# Altium schematic symbol library ToradexMainBoard-V0I1.SCHLIB: 303 symbols (part 14 of 14)
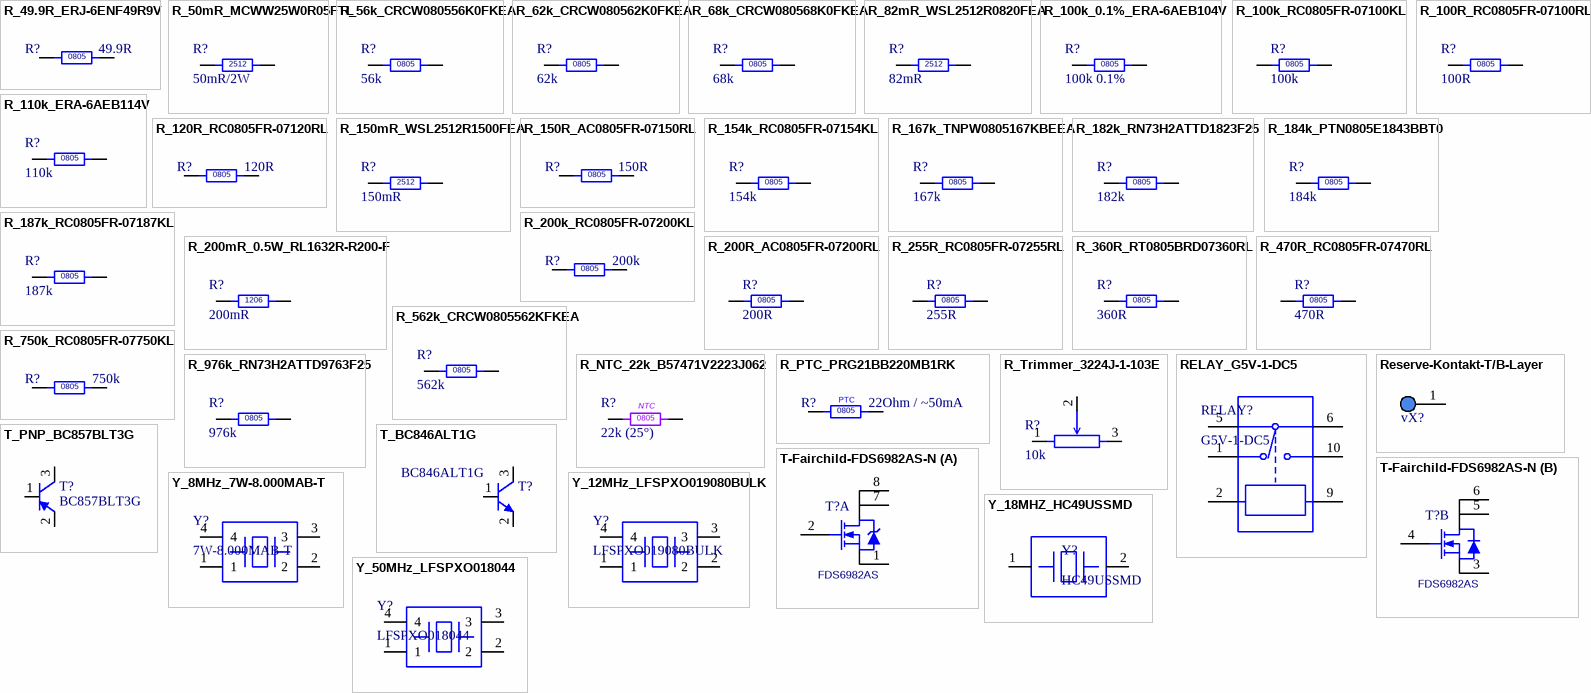
[diagram p28: symbols R_49.9R_ERJ-6ENF49R9V to Y_50MHz_LFSPXO018044]

## R_PTC_PRG21BB220MB1RK
designator R?, comment 22Ohm / ~50mA
Thermistor PTC 22 Ohm 20% 2-Pin 0805 Surface Mount Solder Pad T/R; Manufacturer: Murata; Manufacturer Part Number: PRG21BB220MB1RK; Resistance: 22R; Current Rating: 110mA; Voltage: 20V; Max Current Rating: 1.1A; Hold Current: 30mA; Supplier 1: Farnell; RoHS: Yes; Category: PTC Resettable Fuses; Stock 1: 3000; Pricing 1: 5=0,31200, 50=0,25900, 250=0,23300, 500=0,21400, 1500=0,20000, 3000=0,19000, 15000=0,18300 (EUR); Mount: Surface Mount; Case/Package: 0805; Number of Pins: 2; Case Code (Metric): 2012; Case Code (Imperial): 0805; Min Operating Temperature: -10°C; Max Operating Temperature: 60°C; Tolerance: 20%; Packaging: Tape and Reel; Package Quantity: 3000; Termination: SMD/SMT; Trip Current: 110mA; Length: 2mm; Height: 1.25mm; Width: 800um; Depth: 1.25mm; Radiation Hardening: No; Lead Free: Lead Free; ComponentLink1URL: https://datasheet.ciiva.com/30488/0900766b81259d6c-30488304.pdf?src-supplier=RSComponents; ComponentLink1Description: https://datasheet.ciiva.com/30488/0900766b81259d6c-30488304.pdf?src-supplier=RSComponents; ComponentLink2URL: https://datasheet.ciiva.com/16477/prf18bc471qb1rb-16477217.pdf?src-supplier=Future+Electronics; ComponentLink2Description: https://datasheet.ciiva.com/16477/prf18bc471qb1rb-16477217.pdf?src-supplier=Future+Electronics; ComponentLink3URL: https://datasheet.ciiva.com/325/pthat15-325994.pdf?src-supplier=Digi-Key; ComponentLink3Description: https://datasheet.ciiva.com/325/pthat15-325994.pdf?src-supplier=Digi-Key; ComponentLink4URL: https://datasheet.ciiva.com/3280/r90e-3280581.pdf?src-supplier=Avnet; ComponentLink4Description: https://datasheet.ciiva.com/3280/r90e-3280581.pdf?src-supplier=Avnet; ComponentLink5URL: https://datasheet.ciiva.com/325/pthat15-325995.pdf?src-supplier=Digi-Key; ComponentLink5Description: https://datasheet.ciiva.com/325/pthat15-325995.pdf?src-supplier=Digi-Key; ComponentLink6URL: https://datasheet.ciiva.com/325/pthat15-325996.pdf?src-supplier=Digi-Key; ComponentLink6Description: https://datasheet.ciiva.com/325/pthat15-325996.pdf?src-supplier=Digi-Key; ComponentLink7URL: https://datasheet.ciiva.com/16634/r90e-16634335.pdf?src-supplier=Avnet+Europe; ComponentLink7Description: https://datasheet.ciiva.com/16634/r90e-16634335.pdf?src-supplier=Avnet+Europe; Supplier Part Number 1: 3257114
footprint R-PTC-0805 (Chip Resistor, 2-Leads, Body 2,00x1,25mm, IPC Medium Density)
pins: 1, 2
text: PTC

## R_Trimmer_3224J-1-103E
designator R?, comment 10k
Resistor Trimmer 10k Ohm 10% 1/4 Watt 11 Turn 1.5mm J-hook Surface Mount Embossed Tape and Reel
footprint R_Trimmer-3224J-MFG
pins: 1, 2, 3

## RELAY_G5V-1-DC5
designator RELAY?, comment G5V-1-DC5
RELAY GEN PURPOSE SPDT 1A 125V; Manufacturer: Omron; Coil Current: 30mA; Operate Time: 5ms; Coil Resistance: 167R; Coil Voltage (DC): 5V; Coil Type: Non-Latching; Max Voltage Rating (DC): 60V; Coil Power: 150mW; Relay Type: General Purpose; Number of Poles: 1; Insulation Resistance: 1GR; Approvals: UL,CSA; Supplier 1: Mouser; Manufacturer Part Number: G5V-1-DC5; RoHS: Yes; Category: Signal Relays; Stock 1: 6857; Mount: Through Hole,PCB; Case/Package: DIP; Number of Pins: 6; Contact Material: Gold,Silver; Min Operating Temperature: -40°C; Max Operating Temperature: 70°C; Throw Configuration: SPDT; Termination: PC Pin; Contact Current Rating: 1A; Voltage Rating (AC): 125V; Max Voltage Rating (AC): 125V; Max Current Rating: 1A; Packaging: Bulk; Power Consumption: 150mW; Package Quantity: 25; Voltage Rating (DC): 60V; Release Time: 5ms; Current Rating: 1A; Type: Electromechanical; Length: 12.5mm; Width: 7.5mm; Height: 10mm; Depth: 7.5mm; Radiation Hardening: No; REACH SVHC: Unknown; Lead Free: Lead Free; ComponentLink1URL: https://datasheet.ciiva.com/1525/96550-1525281.pdf?src-supplier=Element14; ComponentLink1Description: https://datasheet.ciiva.com/1525/96550-1525281.pdf?src-supplier=Element14; ComponentLink2URL: https://datasheet.ciiva.com/19455/187240-19455238.pdf?src-supplier=Jameco; ComponentLink2Description: https://datasheet.ciiva.com/19455/187240-19455238.pdf?src-supplier=Jameco; ComponentLink3URL: https://datasheet.ciiva.com/26921/getdatasheetpartid-765626-26921061.pdf?src-supplier=Verical; ComponentLink3Description: https://datasheet.ciiva.com/26921/getdatasheetpartid-765626-26921061.pdf?src-supplier=Verical; ComponentLink4URL: https://datasheet.ciiva.com/18421/70175634-18421511.pdf?src-supplier=Allied+Electronics; ComponentLink4Description: https://datasheet.ciiva.com/18421/70175634-18421511.pdf?src-supplier=Allied+Electronics; ComponentLink5URL: https://datasheet.ciiva.com/15718/g5v-1-15718184.pdf?src-supplier=Onlinecomponents.com; ComponentLink5Description: https://datasheet.ciiva.com/15718/g5v-1-15718184.pdf?src-supplier=Onlinecomponents.com; ComponentLink6URL: https://datasheet.ciiva.com/2416/g5v-1-0911-2416495.pdf?src-supplier=Digi-Key; ComponentLink6Description: https://datasheet.ciiva.com/2416/g5v-1-0911-2416495.pdf?src-supplier=Digi-Key; ComponentLink7URL: https://datasheet.ciiva.com/30083/en-g5v-1-30083503.pdf?src-supplier=Onlinecomponents.com; ComponentLink7Description: https://datasheet.ciiva.com/30083/en-g5v-1-30083503.pdf?src-supplier=Onlinecomponents.com; Supplier Part Number 1: 653-G5V-1-DC5
footprint OMRON-RELAY-G5V-6_V (Relay, 6-Leads, Body 12.3x7.3mm, Pitch 2.54mm)
pins: 1, 2, 5, 6, 9, 10

## Reserve-Kontakt-T/B-Layer
designator vX?, comment Reserve Contact Via 0.5mm  (value not drawn)  (no BOM)
Via Reserve Kontakt
footprint ReseveContact (Via 0.3mm)
pins: 1

## T-Fairchild-FDS6982AS-N
designator T?, comment FDS6982AS
FAIRCHILD SEMICONDUCTOR   FDS6982AS   MOSFET, NN-CH, 30V, 8.6A, 8-SOIC, RL; Manufacturer: ON Semiconductor / Fairchild; PCBChecked: initials after Checked; Rise Time: 7ns; Fall Time: 3ns; Drain to Source Resistance: 11mR; Power Dissipation: 2W; Turn-Off Delay Time: 24ns; Gate to Source Voltage (Vgs): 20V; Input Capacitance: 610pF; Number of Elements: 2; Rds On Max: 28mR; Turn-On Delay Time: 12ns; Threshold Voltage: 1.9V; Nominal Vgs: 1.4V; FET Type: 2 N-Channel; Recovery Time: 19ns; Manufacturer Name: Fairchild; IPC7352C: initials after Checked; SCHChecked: initials after Checked; Supplier 1: Farnell; Manufacturer Part Number: FDS6982AS; RoHS: Yes; Category: MOSFETs; Stock 1: 6507; Pricing 1: 5=0,75600, 50=0,67400, 100=0,43500, 500=0,39200, 1000=0,34800 (EUR); Mount: Surface Mount; Case/Package: SOIC; Number of Pins: 8; Weight: 0.187g; Contact Plating: Tin,Matte; Min Operating Temperature: -55°C; Max Operating Temperature: 150°C; Package Quantity: 1; Packaging: Tape and Reel; Continuous Drain Current (ID): 8.6A; Max Power Dissipation: 2W; Drain to Source Voltage (Vdss): 30V; Drain to Source Breakdown Voltage: 30V; On-State Resistance: 28MR; Voltage Rating (DC): 30V; Current Rating: 8.6A; Length: 5mm; Height: 1.5mm; Width: 3.99mm; Radiation Hardening: No; REACH SVHC: No SVHC; Lead Free: Lead Free; ComponentLink1URL: https://datasheet.ciiva.com/6386/fds6982as-6386529.pdf?src-supplier=Digi-Key; ComponentLink1Description: https://datasheet.ciiva.com/6386/fds6982as-6386529.pdf?src-supplier=Digi-Key; ComponentLink2URL: https://datasheet.ciiva.com/15137/getdatasheetpartid-60181-15137249.pdf?src-supplier=Verical; ComponentLink2Description: https://datasheet.ciiva.com/15137/getdatasheetpartid-60181-15137249.pdf?src-supplier=Verical; ComponentLink3URL: https://datasheet.ciiva.com/14170/fds6982as-eng-tds-14170930.pdf?src-supplier=Distrelec; ComponentLink3Description: https://datasheet.ciiva.com/14170/fds6982as-eng-tds-14170930.pdf?src-supplier=Distrelec; ComponentLink4URL: https://datasheet.ciiva.com/4441/fds6982as-111180-4441914.pdf?src-supplier=Mouser; ComponentLink4Description: https://datasheet.ciiva.com/4441/fds6982as-111180-4441914.pdf?src-supplier=Mouser; ComponentLink5URL: https://datasheet.ciiva.com/8114/fds6982as-8114629.pdf?src-supplier=Avnet; ComponentLink5Description: https://datasheet.ciiva.com/8114/fds6982as-8114629.pdf?src-supplier=Avnet; ComponentLink6URL: https://datasheet.ciiva.com/22705/192146-22705126.pdf?src-supplier=Element14; ComponentLink6Description: https://datasheet.ciiva.com/22705/192146-22705126.pdf?src-supplier=Element14; ComponentLink7URL: https://datasheet.ciiva.com/26141/fds6982as-26141769.pdf?src-supplier=Avnet+Europe; ComponentLink7Description: https://datasheet.ciiva.com/26141/fds6982as-26141769.pdf?src-supplier=Avnet+Europe; Supplier Part Number 1: 1495216; Manufacturer Part No.: FDS6982AS
footprint SOIC127P600X173-8N
part A pins: 1 S, 2 G, 7 D, 8 D
part B pins: 3 S, 4 G, 5 D, 6 D

## T_BC846ALT1G
designator T?, comment BC846ALT1G
ON SEMICONDUCTOR - BC846ALT1G - BIPOLAR TRANSISTOR, FULL REEL; Collector Emitter Voltage (VCEO): 65V; Polarity: NPN; Max Power Dissipation: 300mW; Max Collector Current: 100mA; Emitter Base Voltage (VEBO): 6V; Collector Base Voltage (VCBO): 80V; Transition Frequency: 100MHz; Element Configuration: Single; Number of Elements: 1; Collector Emitter Saturation Voltage: 600mV; hFE Min: 110; Supplier 1: Digi-Key; Manufacturer: ON Semiconductor; Manufacturer Part Number: BC846ALT1G; RoHS: Yes; Category: BJTs; Stock 1: 258757; Pricing 1: 1=0,12000, 10=0,10900, 25=0,10360, 100=0,04570, 250=0,04384, 500=0,03586, 1000=0,02490 (USD); Case/Package: SOT-23-3; Number of Pins: 3; Contact Plating: Tin,Matte; Min Operating Temperature: -55°C; Max Operating Temperature: 150°C; Packaging: Tape and Reel; Collector Emitter Breakdown Voltage: 65V; Package Quantity: 1; Gain Bandwidth Product: 100MHz; Power Dissipation: 300mW; Frequency: 100MHz; Max Breakdown Voltage: 65V; Max Frequency: 100MHz; Voltage Rating (DC): 65V; Current Rating: 100mA; Length: 2.9mm; Height: 0.94mm; Width: 1.3mm; Radiation Hardening: No; Lead Free: Lead Free; REACH SVHC: No SVHC; Halogen Free: Halogen Free; ComponentLink1URL: https://datasheet.ciiva.com/15138/getdatasheetpartid-38432-15138609.pdf?src-supplier=Verical; ComponentLink1Description: https://datasheet.ciiva.com/15138/getdatasheetpartid-38432-15138609.pdf?src-supplier=Verical; ComponentLink2URL: https://datasheet.ciiva.com/976/bc846alt1-d-976374.pdf?src-supplier=Digi-Key; ComponentLink2Description: https://datasheet.ciiva.com/976/bc846alt1-d-976374.pdf?src-supplier=Digi-Key; ComponentLink3URL: https://datasheet.ciiva.com/976/bc846alt1-d-976375.pdf?src-supplier=Digi-Key; ComponentLink3Description: https://datasheet.ciiva.com/976/bc846alt1-d-976375.pdf?src-supplier=Digi-Key; ComponentLink4URL: https://datasheet.ciiva.com/976/bc846alt1-d-976376.pdf?src-supplier=Digi-Key; ComponentLink4Description: https://datasheet.ciiva.com/976/bc846alt1-d-976376.pdf?src-supplier=Digi-Key; ComponentLink5URL: https://datasheet.ciiva.com/22664/1571861-22664104.pdf?src-supplier=Element14; ComponentLink5Description: https://datasheet.ciiva.com/22664/1571861-22664104.pdf?src-supplier=Element14; ComponentLink6URL: https://datasheet.ciiva.com/7972/bc846alt1-d-7972186.pdf?src-supplier=Element14; ComponentLink6Description: https://datasheet.ciiva.com/7972/bc846alt1-d-7972186.pdf?src-supplier=Element14; ComponentLink7URL: https://datasheet.ciiva.com/7972/bc846alt1-d-7972187.pdf?src-supplier=Element14; ComponentLink7Description: https://datasheet.ciiva.com/7972/bc846alt1-d-7972187.pdf?src-supplier=Element14; ComponentLink8URL: https://datasheet.ciiva.com/11197/bc846alt1-d-11197532.pdf?src-supplier=Avnet; ComponentLink8Description: https://datasheet.ciiva.com/11197/bc846alt1-d-11197532.pdf?src-supplier=Avnet; Supplier Part Number 1: BC846ALT1GOSCT-ND
footprint ONSC-SOT-23-3-318-08_V (SOT23, 3-Leads, Body 2.92x1.3mm, Pitch 0.95mm)
pins: 1 B, 2 E, 3 C

## T_PNP_BC857BLT3G
designator T?, comment BC857BLT3G
TRANS PNP 45V 0.1A SOT-23; Manufacturer: ON Semiconductor; Max Power Dissipation: 300mW; Max Collector Current: 100mA; Transition Frequency: 100MHz; Collector Base Voltage (VCBO): 50V; hFE Min: 220; Emitter Base Voltage (VEBO): 5V; Number of Elements: 1; Element Configuration: Single; Collector Emitter Saturation Voltage: -650mV; Voltage Rating (DC): -45V; Current Rating: -100mA; Supplier 1: Digi-Key; Manufacturer Part Number: BC857BLT3G; RoHS: Yes; Category: BJTs; Stock 1: 43597; Pricing 1: 1=0,12000, 10=0,11300, 25=0,10760, 100=0,04730, 250=0,04540, 500=0,03716, 1000=0,02580, 2500=0,02253, 5000=0,02021 (USD); Case/Package: SOT-23-3; Number of Pins: 3; Min Operating Temperature: -55°C; Max Operating Temperature: 150°C; Collector Emitter Voltage (VCEO): 45V; Packaging: Tape and Reel; Collector Emitter Breakdown Voltage: 45V; Package Quantity: 10000; Frequency: 100MHz; Polarity: PNP; Max Breakdown Voltage: 45V; Power Dissipation: 300mW; Gain Bandwidth Product: 100MHz; Radiation Hardening: No; Lead Free: Lead Free; ComponentLink1URL: https://datasheet.ciiva.com/980/bc856alt1-d-980669.pdf?src-supplier=Digi-Key; ComponentLink1Description: https://datasheet.ciiva.com/980/bc856alt1-d-980669.pdf?src-supplier=Digi-Key; ComponentLink2URL: https://datasheet.ciiva.com/980/bc856alt1-d-980670.pdf?src-supplier=Digi-Key; ComponentLink2Description: https://datasheet.ciiva.com/980/bc856alt1-d-980670.pdf?src-supplier=Digi-Key; ComponentLink3URL: https://datasheet.ciiva.com/980/bc856alt1-d-980671.pdf?src-supplier=Digi-Key; ComponentLink3Description: https://datasheet.ciiva.com/980/bc856alt1-d-980671.pdf?src-supplier=Digi-Key; Supplier Part Number 1: BC857BLT3GOSCT-ND
footprint BC856A-SOT-23-3 (SOT23, 3-Leads, Body 2.92x1.3mm, Pitch 0.95mm)
pins: 1 B, 2 E, 3 C

## Y_8MHz_7W-8.000MAB-T
designator Y?, comment 7W-8.000MAB-T
OSC XO 8.000MHZ CMOS SMD; Manufacturer: TXC; Max Supply Current: 20mA; Frequency Stability: 50ppm; Frequency: 8MHz; Load Capacitance: 50pF; Operating Supply Voltage: 5V; Supplier 1: Mouser; Manufacturer Part Number: 7W-8.000MAB-T; RoHS: Yes; Category: Oscillators; Mount: Surface Mount; Case/Package: SMD/SMT; Min Operating Temperature: -10°C; Max Operating Temperature: 70°C; Termination: SMD/SMT; Package Quantity: 1000; Packaging: Tape and Reel; Length: 0.276inch; Width: 0.197inch; Height: 0.056inch; ComponentLink1URL: https://datasheet.ciiva.com/868/7w-868915.pdf?src-supplier=Digi-Key; ComponentLink1Description: https://datasheet.ciiva.com/868/7w-868915.pdf?src-supplier=Digi-Key; ComponentLink2URL: https://datasheet.ciiva.com/868/7w-868914.pdf?src-supplier=Digi-Key; ComponentLink2Description: https://datasheet.ciiva.com/868/7w-868914.pdf?src-supplier=Digi-Key; ComponentLink3URL: https://datasheet.ciiva.com/868/7w-868916.pdf?src-supplier=Digi-Key; ComponentLink3Description: https://datasheet.ciiva.com/868/7w-868916.pdf?src-supplier=Digi-Key; Supplier Part Number 1: 717-7W-8.000MAB-T
footprint Crystal-8MHz-7W-8.000MAB-T
pins: 1, 2, 3, 4

## Y_12MHz_LFSPXO019080BULK
designator Y?, comment LFSPXO019080BULK
Oscillator XO 12MHz ±50ppm 50pF HCMOS/TTL 55% 5V 4-Pin CSMD Bulk; Manufacturer: IQD; Supplier 1: Mouser; Manufacturer Part Number: LFSPXO019080BULK; RoHS: Yes; Category: Oscillators; Stock 1: 194; Case/Package: CSMD; Number of Pins: 4; Min Operating Temperature: 0°C; Max Operating Temperature: 70°C; Frequency Stability: 50ppm; Frequency: 12MHz; Load Capacitance: 50pF; Packaging: Bulk; Length: 7.2mm; Depth: 5.2mm; ComponentLink1URL: http://components.arrow.com/part/dataview/0323_02151450?src-supplier=Arrow+Europe; ComponentLink1Description: http://components.arrow.com/part/dataview/0323_02151450?src-supplier=Arrow+Europe; Supplier Part Number 1: 449-LFSPXO019080BULK
footprint Crystal-12MHz-LFSPXO019080BULK
pins: 1, 2, 3, 4

## Y_18MHZ_HC49USSMD
designator Y?, comment HC49USSMD
Bürklin NR: 78D1180 / PN: HC49USSMD-F-30-30-D-20-TR
footprint Crystal-18MHz-HC49USSMD
pins: 1, 2

## Y_50MHz_LFSPXO018044
designator Y?, comment LFSPXO018044
Oscillator, 50 MHz, 50 ppm, SMD, 7mm x 5mm, 3.3 V, CFPS-73 Series; Manufacturer: IQD; Frequency: 50MHz; Load Capacitance: 50pF; Max Supply Voltage: 3.6V; Min Supply Voltage: 3V; Frequency Stability: 50ppm; Nominal Supply Current: 25mA; Operating Supply Voltage: 3.3V; Rise Time: 6ns; Max Supply Current: 30mA; Supplier 1: Farnell; Manufacturer Part Number: LFSPXO018044; RoHS: Yes; Category: Crystals; Pricing 1: 1000=0,65300, 5000=0,64400 (EUR); Mount: Surface Mount; Case/Package: SMD/SMT; Number of Pins: 4; Min Operating Temperature: 0°C; Max Operating Temperature: 70°C; Frequency Tolerance: 50ppm; Accuracy: 50ppm; Length: 7mm; Width: 5mm; Height: 1.5mm; REACH SVHC: No SVHC; ComponentLink1URL: https://datasheet.ciiva.com/14133/cfps-73-eng-tds-14133405.pdf?src-supplier=Distrelec; ComponentLink1Description: https://datasheet.ciiva.com/14133/cfps-73-eng-tds-14133405.pdf?src-supplier=Distrelec; ComponentLink2URL: https://datasheet.ciiva.com/1359/1737001-1359359.pdf?src-supplier=Element14; ComponentLink2Description: https://datasheet.ciiva.com/1359/1737001-1359359.pdf?src-supplier=Element14; Supplier Part Number 1: 2675763
footprint Crystal-50MHz-LFSPXO018044
pins: 1, 2, 3, 4